# Altium schematic symbol library Crystals.SchLib: 1 symbol
Pins are listed as number, name and electrical type; pins without a type are passive.

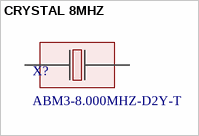
[diagram p0: symbol CRYSTAL 8MHZ]

## CRYSTAL 8MHZ
designator X?, comment ABM3-8.000MHZ-D2Y-T
Crystal 8MHz ±20ppm (Tol) ±30ppm (Stability) 18pF FUND 140Ohm 2-Pin Mini-CSMD T/R; Manufacturer: Abracon; Designed: Ferdi; Supplier 1: Farnell; Manufacturer Part Number: ABM3-8.000MHZ-D2Y-T; RoHS: Yes; Category: Crystals; Stock 1: 69777; Pricing 1: 1=0,446, 50=0,408, 100=0,369, 250=0,366, 500=0,362, 1000=0,332, 5000=0,319, 10000=0,305 (EUR); ComponentLink1URL: https://datasheet.ciiva.com/862/abm3-862465.pdf?src-supplier=Digi-Key; ComponentLink1Description: https://datasheet.ciiva.com/862/abm3-862465.pdf?src-supplier=Digi-Key; Supplier Part Number 1: 2101329; Value: 8.000MHz
footprint Crystal 8.000MHz (18pF ABM3)
pins: 1, 2